# Altium footprint library SG_PCB_Chip.PcbLib: 110 footprints (part 5 of 7)
Each footprint in its own frame and in the unit in brackets; x right, y up, seen from the top. Pads: shape width x height; smd on the part's side, far side on the other; paste and mask are expansions set on the pad; w line width, h text height; cw(c..) or ccw(c..) is an arc to the next point about the centre after c.
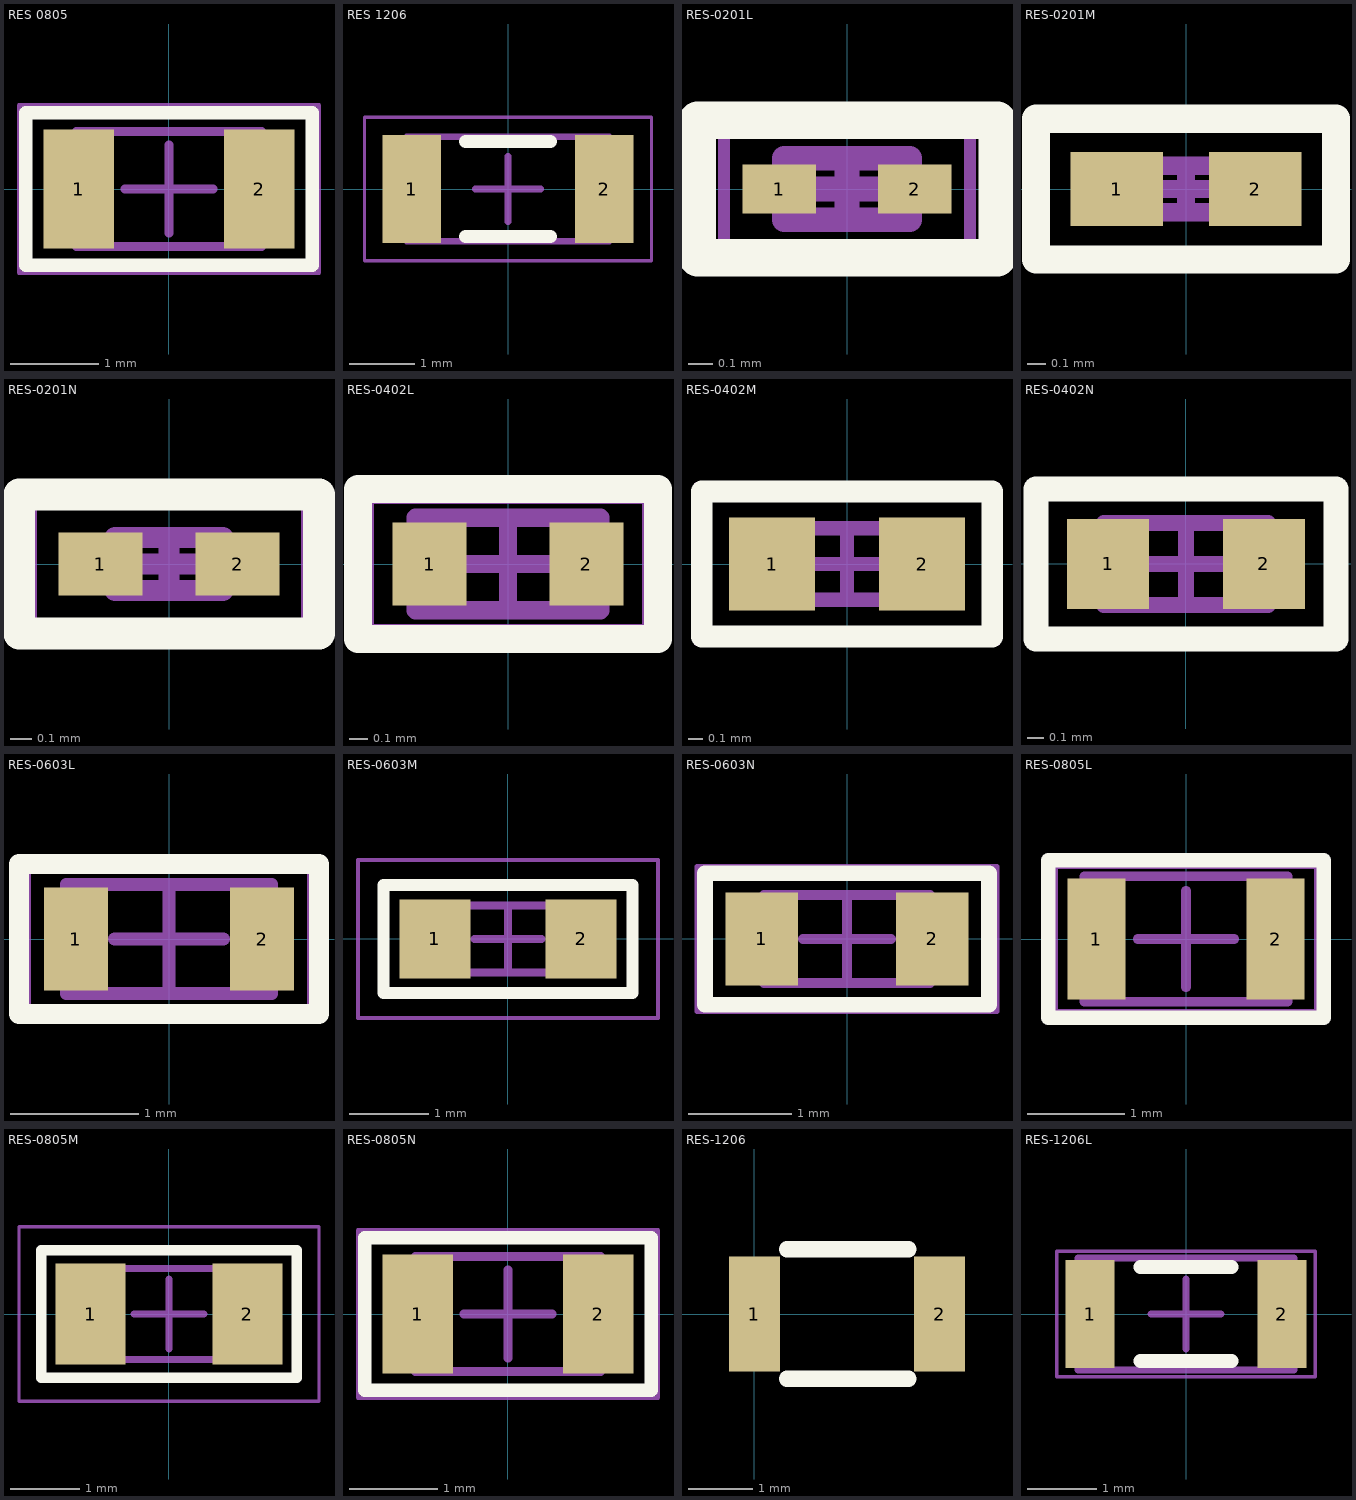
[diagram p4: the footprints below, top view; thin cyan lines are the x and y axes]

## RES 0805 [mm] "== RES-0805N"
pads (2):
  rect 0.8x1.35 smd: 1(-1.025,0) 2(1.025,0)
Top Overlay:
  lines w0.152: -1.6,-0.864 1.626,-0.864 1.626,0.864 -1.626,0.864 -1.626,-0.864 -1.549,-0.864
Assembly Top:
  lines w0.1: -1.05,-0.65 1.05,-0.65 1.05,0.65 -1.05,0.65 -1.05,-0.65
Courtyard Top:
  lines w0.05: -1.7,-0.95 1.7,-0.95 1.7,0.95 -1.7,0.95 -1.7,-0.95
  lines w0.1: -0.5,0 0.5,0 ; 0,-0.5 0,0.5
3D body "RESC2113X05N.step": height 0.5, standoff 0, extent -1.05,-0.65 1.05,0.65

## RES 1206 [mm] "Chip Resistor, 2-Leads, Body 3,10x1,60mm, IPC Medium Density"
height 0.55
pads (2):
  rect 0.9x1.65 smd: 1(-1.475,0) 2(1.475,0)
Top Overlay:
  lines w0.2: -0.65,-0.725 0.65,-0.725 ; -0.65,0.725 0.65,0.725
Assembly Top:
  lines w0.1: -1.55,-0.8 -1.55,0.8 1.55,0.8 1.55,-0.8 -1.55,-0.8
Courtyard Top:
  lines w0.05: -2.2,-1.1 -2.2,1.1 2.2,1.1 2.2,-1.1 -2.2,-1.1
  lines w0.1: -0.5,0 0.5,0 ; 0,-0.5 0,0.5
3D body "RESC3116X06N.step": height 0.55, standoff 0, extent -1.55,-0.8 1.55,0.8

## RES-0201L [mm] "Chip Resistor, 2-Leads, Body 0,51x0,25mm, IPC High Density"
height 0.23
pads (2):
  rect 0.3x0.2 smd: 1(-0.275,0) 2(0.275,0)
Top Overlay:
  lines w0.152: -0.61,-0.279 -0.584,-0.279 0.61,-0.279 0.61,0.279 -0.61,0.279 -0.61,-0.279
Assembly Top:
  lines w0.1: -0.255,-0.125 -0.255,0.125 0.255,0.125 0.255,-0.125 -0.255,-0.125
Courtyard Top:
  lines w0.05: -0.5,-0.25 -0.5,0.25 0.5,0.25 0.5,-0.25 -0.5,-0.25
  lines w0.1: -0.125,0 0.125,0 ; 0,-0.125 0,0.125
3D body "RESC0503X02L.step": height 0.23, standoff 0, extent -0.255,-0.125 0.255,0.125

## RES-0201M [mm] "Chip Resistor, 2-Leads, Body 0,51x0,25mm, IPC Low Density"
height 0.23
pads (2):
  rect 0.5x0.4 smd: 1(-0.375,0) 2(0.375,0)
Top Overlay:
  lines w0.152: -0.813,-0.381 -0.813,0.381 0.813,0.381 0.813,-0.381 -0.813,-0.381
Assembly Top:
  lines w0.1: -0.255,-0.125 -0.255,0.125 0.255,0.125 0.255,-0.125 -0.255,-0.125
Courtyard Top:
  lines w0.05: -0.8,-0.4 -0.8,0.4 0.8,0.4 0.8,-0.4 -0.8,-0.4
  lines w0.1: -0.125,0 0.125,0 ; 0,-0.125 0,0.125
3D body "RESC0503X02M.step": height 0.23, standoff 0, extent -0.255,-0.125 0.255,0.125

## RES-0201N [mm] "Chip Resistor, 2-Leads, Body 0,51x0,25mm, IPC Medium Density"
height 0.23
pads (2):
  rect 0.4x0.3 smd: 1(-0.325,0) 2(0.325,0)
Top Overlay:
  lines w0.152: -0.711,-0.33 -0.711,0.33 0.711,0.33 0.711,-0.33 -0.711,-0.33
Assembly Top:
  lines w0.1: -0.255,-0.125 -0.255,0.125 0.255,0.125 0.255,-0.125 -0.255,-0.125
Courtyard Top:
  lines w0.05: -0.65,-0.3 -0.65,0.3 0.65,0.3 0.65,-0.3 -0.65,-0.3
  lines w0.1: -0.125,0 0.125,0 ; 0,-0.125 0,0.125
3D body "RESC0503X02N.step": height 0.23, standoff 0, extent -0.255,-0.125 0.255,0.125

## RES-0402L [mm] "Chip Resistor, 2-Leads, Body 1,00x0,50mm, IPC High Density"
height 0.35
pads (2):
  rect 0.4x0.45 smd: 1(-0.425,0) 2(0.425,0)
Top Overlay:
  lines w0.152: -0.813,-0.406 -0.813,0.406 0.813,0.406 0.813,-0.406 -0.813,-0.406
Assembly Top:
  lines w0.1: -0.5,-0.25 0.5,-0.25 0.5,0.25 -0.5,0.25 -0.5,-0.25
Courtyard Top:
  lines w0.05: -0.75,-0.35 0.75,-0.35 0.75,0.35 -0.75,0.35 -0.75,-0.35
  lines w0.1: -0.25,0 0.25,0 ; 0,-0.25 0,0.25
3D body "RESC1005X04L.step": height 0.35, standoff 0, extent -0.5,-0.25 0.5,0.25

## RES-0402M [mm] "Chip Resistor, 2-Leads, Body 1,00x0,50mm, IPC Low Density"
height 0.35
pads (2):
  rect 0.6x0.65 smd: 1(-0.525,0) 2(0.525,0)
Top Overlay:
  lines w0.152: -0.991,-0.508 1.016,-0.508 1.016,0.508 -1.016,0.508 -1.016,-0.508 -0.737,-0.508
Assembly Top:
  lines w0.1: -0.5,-0.25 -0.5,0.25 0.5,0.25 0.5,-0.25 -0.5,-0.25
Courtyard Top:
  lines w0.05: -1.05,-0.55 -1.05,0.55 1.05,0.55 1.05,-0.55 -1.05,-0.55
  lines w0.1: -0.25,0 0.25,0 ; 0,-0.25 0,0.25
3D body "RESC1005X04M.step": height 0.35, standoff 0, extent -0.5,-0.25 0.5,0.25

## RES-0402N [mm] "Chip Resistor, 2-Leads, Body 1,00x0,50mm, IPC Medium Density"
height 0.35
pads (2):
  rect 0.5x0.55 smd: 1(-0.475,0) 2(0.475,0)
Top Overlay:
  lines w0.152: -0.914,-0.457 0.914,-0.457 0.914,0.457 -0.914,0.457 -0.914,-0.457
Assembly Top:
  lines w0.1: -0.5,-0.25 0.5,-0.25 0.5,0.25 -0.5,0.25 -0.5,-0.25
Courtyard Top:
  lines w0.05: -0.9,-0.45 0.9,-0.45 0.9,0.45 -0.9,0.45 -0.9,-0.45
  lines w0.1: -0.25,0 0.25,0 ; 0,-0.25 0,0.25
3D body "RESC1005X04N.step": height 0.35, standoff 0, extent -0.5,-0.25 0.5,0.25

## RES-0603L [mm] "Chip Resistor, 2-Leads, Body 1,60x0,85mm, IPC High Density"
height 0.45
pads (2):
  rect 0.5x0.8 smd: 1(-0.725,0) 2(0.725,0)
Top Overlay:
  lines w0.152: -1.168,-0.584 -1.168,-0.559 -1.168,0.584 1.168,0.584 1.168,-0.584 -1.143,-0.584
Assembly Top:
  lines w0.1: -0.8,-0.425 -0.8,0.425 0.8,0.425 0.8,-0.425 -0.8,-0.425
Courtyard Top:
  lines w0.05: -1.1,-0.55 -1.1,0.55 1.1,0.55 1.1,-0.55 -1.1,-0.55
  lines w0.1: -0.425,0 0.425,0 ; 0,-0.425 0,0.425
3D body "RESC1608X04L.step": height 0.45, standoff 0, extent -0.8,-0.425 0.8,0.425

## RES-0603M [mm] "Chip Resistor, 2-Leads, Body 1,60x0,85mm, IPC Low Density"
height 0.45
pads (2):
  rect 0.9x1 smd: 1(-0.925,0) 2(0.925,0)
Top Overlay:
  lines w0.152: -1.575,-0.381 -1.575,-0.686 -1.245,-0.686 ; -1.575,-0.66 -1.549,-0.686 1.575,-0.686 1.575,0.686 -1.575,0.686 -1.575,-0.66
Assembly Top:
  lines w0.1: -0.8,-0.425 -0.8,0.425 0.8,0.425 0.8,-0.425 -0.8,-0.425
Courtyard Top:
  lines w0.05: -1.9,-1 -1.9,1 1.9,1 1.9,-1 -1.9,-1
  lines w0.1: -0.425,0 0.425,0 ; 0,-0.425 0,0.425
3D body "RESC1608X04M.step": height 0.45, standoff 0, extent -0.8,-0.425 0.8,0.425

## RES-0603N [mm] "Chip Resistor, 2-Leads, Body 1,60x0,85mm, IPC Medium Density"
height 0.45
pads (2):
  rect 0.7x0.9 smd: 1(-0.825,0) 2(0.825,0)
Top Overlay:
  lines w0.152: -1.372,-0.635 -1.372,0.635 1.372,0.635 1.372,-0.635 -1.346,-0.635
Assembly Top:
  lines w0.1: -0.8,-0.425 -0.8,0.425 0.8,0.425 0.8,-0.425 -0.8,-0.425
Courtyard Top:
  lines w0.05: -1.45,-0.7 -1.45,0.7 1.45,0.7 1.45,-0.7 -1.45,-0.7
  lines w0.1: -0.425,0 0.425,0 ; 0,-0.425 0,0.425
3D body "RESC1608X04N.step": height 0.45, standoff 0, extent -0.8,-0.425 0.8,0.425

## RES-0805L [mm] "Chip Resistor, 2-Leads, Body 2,10x1,30mm, IPC High Density"
height 0.5
pads (2):
  rect 0.6x1.25 smd: 1(-0.925,0) 2(0.925,0)
Top Overlay:
  lines w0.152: -1.422,-0.813 -1.422,0.813 1.422,0.813 1.422,-0.813 -1.422,-0.813
Assembly Top:
  lines w0.1: -1.05,-0.65 -1.05,0.65 1.05,0.65 1.05,-0.65 -1.05,-0.65
Courtyard Top:
  lines w0.05: -1.35,-0.75 -1.35,0.75 1.35,0.75 1.35,-0.75 -1.35,-0.75
  lines w0.1: -0.5,0 0.5,0 ; 0,-0.5 0,0.5
3D body "RESC2113X05L.step": height 0.5, standoff 0, extent -1.05,-0.65 1.05,0.65

## RES-0805M [mm] "Chip Resistor, 2-Leads, Body 2,10x1,30mm, IPC Low Density"
height 0.5
pads (2):
  rect 1x1.45 smd: 1(-1.125,0) 2(1.125,0)
Top Overlay:
  lines w0.152: -1.803,-0.914 1.829,-0.914 1.829,0.914 -1.803,0.914 -1.829,0.914 -1.829,0.102 -1.829,-0.914 -1.245,-0.914
Assembly Top:
  lines w0.1: -1.05,-0.65 -1.05,0.65 1.05,0.65 1.05,-0.65 -1.05,-0.65
Courtyard Top:
  lines w0.05: -2.15,-1.25 -2.15,1.25 2.15,1.25 2.15,-1.25 -2.15,-1.25
  lines w0.1: -0.5,0 0.5,0 ; 0,-0.5 0,0.5
3D body "RESC2113X05M.step": height 0.5, standoff 0, extent -1.05,-0.65 1.05,0.65

## RES-0805N [mm] "Chip Resistor, 2-Leads, Body 2,10x1,30mm, IPC Medium Density"
height 0.5
pads (2):
  rect 0.8x1.35 smd: 1(-1.025,0) 2(1.025,0)
Top Overlay:
  lines w0.152: -1.6,-0.864 1.626,-0.864 1.626,0.864 -1.626,0.864 -1.626,-0.864 -1.549,-0.864
Assembly Top:
  lines w0.1: -1.05,-0.65 1.05,-0.65 1.05,0.65 -1.05,0.65 -1.05,-0.65
Courtyard Top:
  lines w0.05: -1.7,-0.95 1.7,-0.95 1.7,0.95 -1.7,0.95 -1.7,-0.95
  lines w0.1: -0.5,0 0.5,0 ; 0,-0.5 0,0.5
3D body "RESC2113X05N.step": height 0.5, standoff 0, extent -1.05,-0.65 1.05,0.65

## RES-1206 [mm]
pads (2):
  rect 0.8x1.8 smd mask+0.05: 1(0,0) 2(2.9,0)
Top Overlay:
  lines w0.254: 0.508,-1.016 2.413,-1.016 ; 0.508,1.016 2.413,1.016
3D body "RES 1206.step": height 0.57, standoff 0, extent -0.051,-0.711 3.049,0.841

## RES-1206L [mm] "Chip Resistor, 2-Leads, Body 3,10x1,60mm, IPC High Density"
height 0.55
pads (2):
  rect 0.7x1.55 smd: 1(-1.375,0) 2(1.375,0)
Top Overlay:
  lines w0.2: -0.65,-0.675 0.65,-0.675 ; -0.65,0.675 0.65,0.675
Assembly Top:
  lines w0.1: -1.55,-0.8 1.55,-0.8 1.55,0.8 -1.55,0.8 -1.55,-0.8
Courtyard Top:
  lines w0.05: -1.85,-0.9 1.85,-0.9 1.85,0.9 -1.85,0.9 -1.85,-0.9
  lines w0.1: -0.5,0 0.5,0 ; 0,-0.5 0,0.5
3D body "RESC3116X06L.step": height 0.55, standoff 0, extent -1.55,-0.8 1.55,0.8